# EAGLE library part RN4020 (library mille-feuille)
RN4020 Bluetooth Low Energy
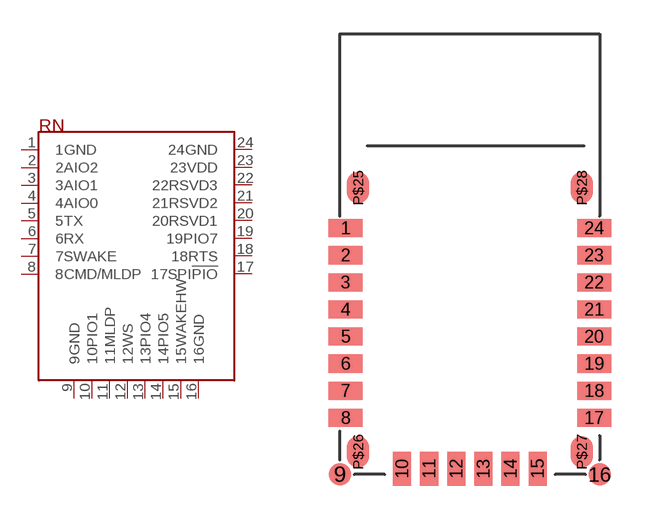
[diagram p2: symbol with the pads of RN4020; footprint RN4020]

Designator prefix RN

## RN4020  [RN4020]
1  1GND
2  2AIO2
3  3AIO1
4  4AIO0
5  5TX
6  6RX
7  7SWAKE
8  8CMD/MLDP
9  9GND
10  10PIO1
11  11MLDP
12  12WS
13  13PIO4
14  14PIO5
15  15WAKEHW
16  16GND
17  17SPI!PIO
18  18RTS
19  19PIO7
20  20RSVD1
21  21RSVD2
22  22RSVD3
23  23VDD
24  24GND

## Footprint RN4020 (pad centres in mm)
smd 1.5 x 0.8: 1 -6.1,2.01; 2 -6.1,0.81; 3 -6.1,-0.39; 4 -6.1,-1.59; 5 -6.1,-2.79; 6 -6.1,-3.99; 7 -6.1,-5.19; 8 -6.1,-6.39; 17 4.9,-6.39; 18 4.9,-5.19; 19 4.9,-3.99; 20 4.9,-2.79; 21 4.9,-1.59; 22 4.9,-0.39; 23 4.9,0.81; 24 4.9,2.01
smd 1 x 1: 9 -6.35,-8.89; 16 5.15,-8.89
smd 0.8 x 1.5: 10 -3.6,-8.64; 11 -2.4,-8.64; 12 -1.2,-8.64; 13 0,-8.64; 14 1.2,-8.64; 15 2.4,-8.64
smd 1 x 1.4: P$25 -5.55,3.81; P$26 -5.55,-7.89; P$27 4.35,-7.89; P$28 4.35,3.81